# Altium integrated library Capacitor - Aluminium TH.IntLib: 4591 symbols (part 66 of 68)
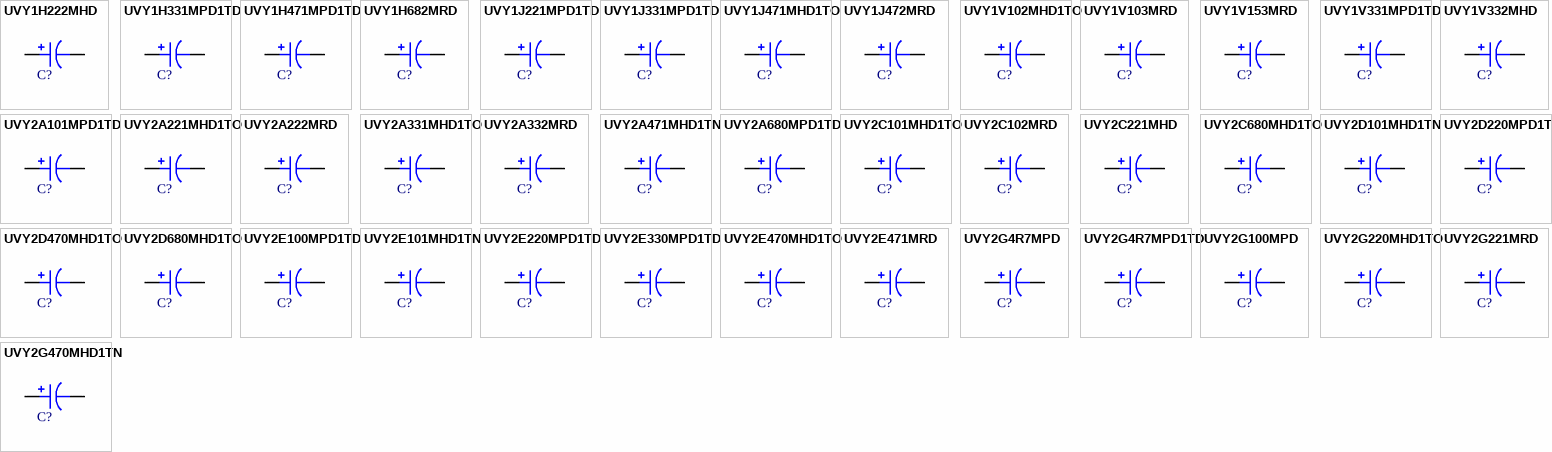
[diagram p179: symbols UVY1H222MHD to UVY2G470MHD1TN]

## UVY2A332MRD
designator C?, comment 3300uF  (value not drawn)
CAP ALUM 3300UF 20% 100V RADIAL; Part Number: UVY2A332MRD; Manufacturer: Nichicon; TemperatureRange: -55C ~ 105C; Type: Polar; Ripple Current: 2.07A; Value: 3300uF; PartId: 27523; Supplier 1: Digi-Key; Supplier Part Number 1: 493-12486-ND; ComponentLink1Description: Datasheet; ComponentLink1URL: http://nichicon-us.com/english/products/pdfs/e-uvy.pdf; ComponentLink2Description: Digi-Key Listing; ComponentLink2URL: https://www.digikey.com/product-detail/en/nichicon/UVY2A332MRD/493-12486-ND/2539710; Tolerance: 20%; Voltage: 100V; Price: 5.02; Device Package: Radial, Can, 25mm
footprint CAP AL TH D25 L12.5 H52
pins: 1, 2

## UVY2A471MHD1TN
designator C?, comment 470uF  (value not drawn)
CAP ALUM 470UF 20% 100V RADIAL; Part Number: UVY2A471MHD1TN; Manufacturer: Nichicon; TemperatureRange: -55C ~ 105C; Type: Polar; Ripple Current: 715mA; Value: 470uF; PartId: 26773; Supplier 1: Digi-Key; Supplier Part Number 1: 493-12956-3-ND; ComponentLink1Description: Datasheet; ComponentLink1URL: http://nichicon-us.com/english/products/pdfs/e-uvy.pdf; ComponentLink2Description: Digi-Key Listing; ComponentLink2URL: https://www.digikey.com/product-detail/en/nichicon/UVY2A471MHD1TN/493-12956-3-ND/4329155; Tolerance: 20%; Voltage: 100V; Price: 0.6202; Device Package: Radial, Can, 16mm
footprint CAP AL TH D16 L7.5 H27
pins: 1, 2

## UVY2A680MPD1TD
designator C?, comment 68uF  (value not drawn)
CAP ALUM 68UF 20% 100V RADIAL; Part Number: UVY2A680MPD1TD; Manufacturer: Nichicon; TemperatureRange: -55C ~ 105C; Type: Polar; Ripple Current: 190mA; Value: 68uF; PartId: 24973; Supplier 1: Digi-Key; Supplier Part Number 1: 493-12958-1-ND; ComponentLink1Description: Datasheet; ComponentLink1URL: http://nichicon-us.com/english/products/pdfs/e-uvy.pdf; ComponentLink2Description: Digi-Key Listing; ComponentLink2URL: https://www.digikey.com/product-detail/en/nichicon/UVY2A680MPD1TD/493-12958-1-ND/4328575; Tolerance: 20%; Voltage: 100V; Price: 0.53; Device Package: Radial, Can, 10mm
footprint CAP AL TH D10 L5 H14.5
pins: 1, 2

## UVY2C101MHD1TO
designator C?, comment 100uF  (value not drawn)
CAP ALUM 100UF 20% 160V RADIAL; Part Number: UVY2C101MHD1TO; Manufacturer: Nichicon; TemperatureRange: -40C ~ 105C; Type: Polar; Ripple Current: 310mA; Value: 100uF; PartId: 24008; Supplier 1: Digi-Key; Supplier Part Number 1: 493-12963-1-ND; ComponentLink1Description: Datasheet; ComponentLink1URL: http://nichicon-us.com/english/products/pdfs/e-uvy.pdf; ComponentLink2Description: Digi-Key Listing; ComponentLink2URL: https://www.digikey.com/product-detail/en/nichicon/UVY2C101MHD1TO/493-12963-1-ND/4328580; Tolerance: 20%; Voltage: 160V; Price: 1.06; Device Package: Radial, Can, 12.5mm
footprint CAP AL TH D12.5 L5 H27
pins: 1, 2

## UVY2C102MRD
designator C?, comment 1000uF  (value not drawn)
CAP ALUM 1000UF 20% 160V RADIAL; Part Number: UVY2C102MRD; Manufacturer: Nichicon; TemperatureRange: -40C ~ 105C; Type: Polar; Ripple Current: 1.35A; Value: 1000uF; PartId: 27549; Supplier 1: Digi-Key; Supplier Part Number 1: 493-12487-ND; ComponentLink1Description: Datasheet; ComponentLink1URL: http://nichicon-us.com/english/products/pdfs/e-uvy.pdf; ComponentLink2Description: Digi-Key Listing; ComponentLink2URL: https://www.digikey.com/product-detail/en/nichicon/UVY2C102MRD/493-12487-ND/2539720; Tolerance: 20%; Voltage: 160V; Price: 3.9; Device Package: Radial, Can, 25mm
footprint CAP AL TH D25 L12.5 H52
pins: 1, 2

## UVY2C221MHD
designator C?, comment 220uF  (value not drawn)
CAP ALUM 220UF 20% 160V RADIAL; Part Number: UVY2C221MHD; Manufacturer: Nichicon; TemperatureRange: -40C ~ 105C; Type: Polar; Ripple Current: 410mA; Value: 220uF; PartId: 27063; Supplier 1: Digi-Key; Supplier Part Number 1: 493-7354-ND; ComponentLink1Description: Datasheet; ComponentLink1URL: http://nichicon-us.com/english/products/pdfs/e-uvy.pdf; ComponentLink2Description: Digi-Key Listing; ComponentLink2URL: https://www.digikey.com/product-detail/en/nichicon/UVY2C221MHD/493-7354-ND/2539722; Tolerance: 20%; Voltage: 160V; Price: 1.62; Device Package: Radial, Can, 16mm
footprint CAP AL TH D16 L7.5 H33.5
pins: 1, 2

## UVY2C680MHD1TO
designator C?, comment 68uF  (value not drawn)
CAP ALUM 68UF 20% 160V RADIAL; Part Number: UVY2C680MHD1TO; Manufacturer: Nichicon; TemperatureRange: -40C ~ 105C; Type: Polar; Ripple Current: 250mA; Value: 68uF; PartId: 23307; Supplier 1: Digi-Key; Supplier Part Number 1: 493-12967-1-ND; ComponentLink1Description: Datasheet; ComponentLink1URL: http://nichicon-us.com/english/products/pdfs/e-uvy.pdf; ComponentLink2Description: Digi-Key Listing; ComponentLink2URL: https://www.digikey.com/product-detail/en/nichicon/UVY2C680MHD1TO/493-12967-1-ND/4328584; Tolerance: 20%; Voltage: 160V; Price: 0.81; Device Package: Radial, Can, 12.5mm
footprint CAP AL TH D12.5 L5 H22
pins: 1, 2

## UVY2D101MHD1TN
designator C?, comment 100uF  (value not drawn)
CAP ALUM 100UF 20% 200V RADIAL; Part Number: UVY2D101MHD1TN; Manufacturer: Nichicon; TemperatureRange: -40C ~ 105C; Type: Polar; Ripple Current: 320mA; Value: 100uF; PartId: 26787; Supplier 1: Digi-Key; Supplier Part Number 1: 493-7465-2-ND; ComponentLink1Description: Datasheet; ComponentLink1URL: http://nichicon-us.com/english/products/pdfs/e-uvy.pdf; ComponentLink2Description: Digi-Key Listing; ComponentLink2URL: https://www.digikey.com/product-detail/en/nichicon/UVY2D101MHD1TN/493-7465-2-ND/3768872; Tolerance: 20%; Voltage: 200V; Price: 0.6682; Device Package: Radial, Can, 16mm
footprint CAP AL TH D16 L7.5 H27
pins: 1, 2

## UVY2D220MPD1TD
designator C?, comment 22uF  (value not drawn)
CAP ALUM 22UF 20% 200V RADIAL; Part Number: UVY2D220MPD1TD; Manufacturer: Nichicon; TemperatureRange: -40C ~ 105C; Type: Polar; Ripple Current: 105mA; Value: 22uF; PartId: 25063; Supplier 1: Digi-Key; Supplier Part Number 1: 493-12971-3-ND; ComponentLink1Description: Datasheet; ComponentLink1URL: http://nichicon-us.com/english/products/pdfs/e-uvy.pdf; ComponentLink2Description: Digi-Key Listing; ComponentLink2URL: https://www.digikey.com/product-detail/en/nichicon/UVY2D220MPD1TD/493-12971-3-ND/4329170; Tolerance: 20%; Voltage: 200V; Price: 0.2228; Device Package: Radial, Can, 10mm
footprint CAP AL TH D10 L5 H17.5
pins: 1, 2

## UVY2D470MHD1TO
designator C?, comment 47uF  (value not drawn)
CAP ALUM 47UF 20% 200V RADIAL; Part Number: UVY2D470MHD1TO; Manufacturer: Nichicon; TemperatureRange: -40C ~ 105C; Type: Polar; Ripple Current: 195mA; Value: 47uF; PartId: 23272; Supplier 1: Digi-Key; Supplier Part Number 1: 493-12975-1-ND; ComponentLink1Description: Datasheet; ComponentLink1URL: http://nichicon-us.com/english/products/pdfs/e-uvy.pdf; ComponentLink2Description: Digi-Key Listing; ComponentLink2URL: https://www.digikey.com/product-detail/en/nichicon/UVY2D470MHD1TO/493-12975-1-ND/4328592; Tolerance: 20%; Voltage: 200V; Price: 0.75; Device Package: Radial, Can, 12.5mm
footprint CAP AL TH D12.5 L5 H22
pins: 1, 2

## UVY2D680MHD1TO
designator C?, comment 68uF  (value not drawn)
CAP ALUM 68UF 20% 200V RADIAL; Part Number: UVY2D680MHD1TO; Manufacturer: Nichicon; TemperatureRange: -40C ~ 105C; Type: Polar; Ripple Current: 250mA; Value: 68uF; PartId: 23970; Supplier 1: Digi-Key; Supplier Part Number 1: 493-12977-1-ND; ComponentLink1Description: Datasheet; ComponentLink1URL: http://nichicon-us.com/english/products/pdfs/e-uvy.pdf; ComponentLink2Description: Digi-Key Listing; ComponentLink2URL: https://www.digikey.com/product-detail/en/nichicon/UVY2D680MHD1TO/493-12977-1-ND/4328594; Tolerance: 20%; Voltage: 200V; Price: 1; Device Package: Radial, Can, 12.5mm
footprint CAP AL TH D12.5 L5 H27
pins: 1, 2

## UVY2E100MPD1TD
designator C?, comment 10uF  (value not drawn)
CAP ALUM 10UF 20% 250V RADIAL; Part Number: UVY2E100MPD1TD; Manufacturer: Nichicon; TemperatureRange: -40C ~ 105C; Type: Polar; Ripple Current: 71mA; Value: 10uF; PartId: 24602; Supplier 1: Digi-Key; Supplier Part Number 1: 493-12981-3-ND; ComponentLink1Description: Datasheet; ComponentLink1URL: http://nichicon-us.com/english/products/pdfs/e-uvy.pdf; ComponentLink2Description: Digi-Key Listing; ComponentLink2URL: https://www.digikey.com/product-detail/en/nichicon/UVY2E100MPD1TD/493-12981-3-ND/4329180; Tolerance: 20%; Voltage: 250V; Price: 0.1782; Device Package: Radial, Can, 10mm
footprint CAP AL TH D10 L5 H14.5
pins: 1, 2

## UVY2E101MHD1TN
designator C?, comment 100uF  (value not drawn)
CAP ALUM 100UF 20% 250V RADIAL; Part Number: UVY2E101MHD1TN; Manufacturer: Nichicon; TemperatureRange: -40C ~ 105C; Type: Polar; Ripple Current: 310mA; Value: 100uF; PartId: 26804; Supplier 1: Digi-Key; Supplier Part Number 1: 493-12982-3-ND; ComponentLink1Description: Datasheet; ComponentLink1URL: http://nichicon-us.com/english/products/pdfs/e-uvy.pdf; ComponentLink2Description: Digi-Key Listing; ComponentLink2URL: https://www.digikey.com/product-detail/en/nichicon/UVY2E101MHD1TN/493-12982-3-ND/4329181; Tolerance: 20%; Voltage: 250V; Price: 0.8096; Device Package: Radial, Can, 16mm
footprint CAP AL TH D16 L7.5 H27
pins: 1, 2

## UVY2E220MPD1TD
designator C?, comment 22uF  (value not drawn)
CAP ALUM 22UF 20% 250V RADIAL; Part Number: UVY2E220MPD1TD; Manufacturer: Nichicon; TemperatureRange: -40C ~ 105C; Type: Polar; Ripple Current: 105mA; Value: 22uF; PartId: 25761; Supplier 1: Digi-Key; Supplier Part Number 1: 493-12983-3-ND; ComponentLink1Description: Datasheet; ComponentLink1URL: http://nichicon-us.com/english/products/pdfs/e-uvy.pdf; ComponentLink2Description: Digi-Key Listing; ComponentLink2URL: https://www.digikey.com/product-detail/en/nichicon/UVY2E220MPD1TD/493-12983-3-ND/4329182; Tolerance: 20%; Voltage: 250V; Price: 0.2136; Device Package: Radial, Can, 10mm
footprint CAP AL TH D10 L5 H22
pins: 1, 2

## UVY2E330MPD1TD
designator C?, comment 33uF  (value not drawn)
CAP ALUM 33UF 20% 250V RADIAL; Part Number: UVY2E330MPD1TD; Manufacturer: Nichicon; TemperatureRange: -40C ~ 105C; Type: Polar; Ripple Current: 140mA; Value: 33uF; PartId: 25791; Supplier 1: Digi-Key; Supplier Part Number 1: 493-12984-3-ND; ComponentLink1Description: Datasheet; ComponentLink1URL: http://nichicon-us.com/english/products/pdfs/e-uvy.pdf; ComponentLink2Description: Digi-Key Listing; ComponentLink2URL: https://www.digikey.com/product-detail/en/nichicon/UVY2E330MPD1TD/493-12984-3-ND/4329183; Tolerance: 20%; Voltage: 250V; Price: 0.2646; Device Package: Radial, Can, 10mm
footprint CAP AL TH D10 L5 H22
pins: 1, 2

## UVY2E470MHD1TO
designator C?, comment 47uF  (value not drawn)
CAP ALUM 47UF 20% 250V RADIAL; Part Number: UVY2E470MHD1TO; Manufacturer: Nichicon; TemperatureRange: -40C ~ 105C; Type: Polar; Ripple Current: 190mA; Value: 47uF; PartId: 23407; Supplier 1: Digi-Key; Supplier Part Number 1: 493-12986-1-ND; ComponentLink1Description: Datasheet; ComponentLink1URL: http://nichicon-us.com/english/products/pdfs/e-uvy.pdf; ComponentLink2Description: Digi-Key Listing; ComponentLink2URL: https://www.digikey.com/product-detail/en/nichicon/UVY2E470MHD1TO/493-12986-1-ND/4328603; Tolerance: 20%; Voltage: 250V; Price: 0.98; Device Package: Radial, Can, 12.5mm
footprint CAP AL TH D12.5 L5 H22
pins: 1, 2

## UVY2E471MRD
designator C?, comment 470uF  (value not drawn)
CAP ALUM 470UF 20% 250V RADIAL; Part Number: UVY2E471MRD; Manufacturer: Nichicon; TemperatureRange: -40C ~ 105C; Type: Polar; Ripple Current: 1A; Value: 470uF; PartId: 27645; Supplier 1: Digi-Key; Supplier Part Number 1: 493-12494-ND; ComponentLink1Description: Datasheet; ComponentLink1URL: http://nichicon-us.com/english/products/pdfs/e-uvy.pdf; ComponentLink2Description: Digi-Key Listing; ComponentLink2URL: https://www.digikey.com/product-detail/en/nichicon/UVY2E471MRD/493-12494-ND/2539753; Tolerance: 20%; Voltage: 250V; Price: 4.16; Device Package: Radial, Can, 22mm
footprint CAP AL TH D22 L10 H53
pins: 1, 2

## UVY2G4R7MPD
designator C?, comment 4.7uF  (value not drawn)
CAP ALUM 4.7UF 20% 400V RADIAL; Part Number: UVY2G4R7MPD; Manufacturer: Nichicon; TemperatureRange: -40C ~ 105C; Type: Polar; Ripple Current: 42mA; Value: 4.7uF; PartId: 24838; Supplier 1: Digi-Key; Supplier Part Number 1: 493-14517-ND; ComponentLink1Description: Datasheet; ComponentLink1URL: http://nichicon-us.com/english/products/pdfs/e-uvy.pdf; ComponentLink2Description: Digi-Key Listing; ComponentLink2URL: https://www.digikey.com/product-detail/en/nichicon/UVY2G4R7MPD/493-14517-ND/2539765; Tolerance: 20%; Voltage: 400V; Price: 0.46; Device Package: Radial, Can, 10mm
footprint CAP AL TH D10 L5 H14.5
pins: 1, 2

## UVY2G4R7MPD1TD
designator C?, comment 4.7uF  (value not drawn)
CAP ALUM 4.7UF 20% 400V RADIAL; Part Number: UVY2G4R7MPD1TD; Manufacturer: Nichicon; TemperatureRange: -40C ~ 105C; Type: Polar; Ripple Current: 42mA; Value: 4.7uF; PartId: 24574; Supplier 1: Digi-Key; Supplier Part Number 1: 493-12991-3-ND; ComponentLink1Description: Datasheet; ComponentLink1URL: http://nichicon-us.com/english/products/pdfs/e-uvy.pdf; ComponentLink2Description: Digi-Key Listing; ComponentLink2URL: https://www.digikey.com/product-detail/en/nichicon/UVY2G4R7MPD1TD/493-12991-3-ND/4329190; Tolerance: 20%; Voltage: 400V; Price: 0.1578; Device Package: Radial, Can, 10mm
footprint CAP AL TH D10 L5 H14.5
pins: 1, 2

## UVY2G100MPD
designator C?, comment 10uF  (value not drawn)
CAP ALUM 10UF 20% 400V RADIAL; Part Number: UVY2G100MPD; Manufacturer: Nichicon; TemperatureRange: -40C ~ 105C; Type: Polar; Ripple Current: 64mA; Value: 10uF; PartId: 25276; Supplier 1: Digi-Key; Supplier Part Number 1: 493-13411-ND; ComponentLink1Description: Datasheet; ComponentLink1URL: http://nichicon-us.com/english/products/pdfs/e-uvy.pdf; ComponentLink2Description: Digi-Key Listing; ComponentLink2URL: https://www.digikey.com/product-detail/en/nichicon/UVY2G100MPD/493-13411-ND/2539757; Tolerance: 20%; Voltage: 400V; Price: 0.62; Device Package: Radial, Can, 10mm
footprint CAP AL TH D10 L5 H17.5
pins: 1, 2

## UVY2G220MHD1TO
designator C?, comment 22uF  (value not drawn)
CAP ALUM 22UF 20% 400V RADIAL; Part Number: UVY2G220MHD1TO; Manufacturer: Nichicon; TemperatureRange: -40C ~ 105C; Type: Polar; Ripple Current: 140mA; Value: 22uF; PartId: 23861; Supplier 1: Digi-Key; Supplier Part Number 1: 493-7468-2-ND; ComponentLink1Description: Datasheet; ComponentLink1URL: http://nichicon-us.com/english/products/pdfs/e-uvy.pdf; ComponentLink2Description: Digi-Key Listing; ComponentLink2URL: https://www.digikey.com/product-detail/en/nichicon/UVY2G220MHD1TO/493-7468-2-ND/3768878; Tolerance: 20%; Voltage: 400V; Price: 0.6764; Device Package: Radial, Can, 12.5mm
footprint CAP AL TH D12.5 L5 H27
pins: 1, 2

## UVY2G221MRD
designator C?, comment 220uF  (value not drawn)
CAP ALUM 220UF 20% 400V RADIAL; Part Number: UVY2G221MRD; Manufacturer: Nichicon; TemperatureRange: -40C ~ 105C; Type: Polar; Ripple Current: 460mA; Value: 220uF; PartId: 27629; Supplier 1: Digi-Key; Supplier Part Number 1: 493-12496-ND; ComponentLink1Description: Datasheet; ComponentLink1URL: http://nichicon-us.com/english/products/pdfs/e-uvy.pdf; ComponentLink2Description: Digi-Key Listing; ComponentLink2URL: https://www.digikey.com/product-detail/en/nichicon/UVY2G221MRD/493-12496-ND/2539760; Tolerance: 20%; Voltage: 400V; Price: 4.57; Device Package: Radial, Can, 22mm
footprint CAP AL TH D22 L10 H53
pins: 1, 2

## UVY2G470MHD1TN
designator C?, comment 47uF  (value not drawn)
CAP ALUM 47UF 20% 400V RADIAL; Part Number: UVY2G470MHD1TN; Manufacturer: Nichicon; TemperatureRange: -40C ~ 105C; Type: Polar; Ripple Current: 200mA; Value: 47uF; PartId: 26811; Supplier 1: Digi-Key; Supplier Part Number 1: 493-12990-3-ND; ComponentLink1Description: Datasheet; ComponentLink1URL: http://nichicon-us.com/english/products/pdfs/e-uvy.pdf; ComponentLink2Description: Digi-Key Listing; ComponentLink2URL: https://www.digikey.com/product-detail/en/nichicon/UVY2G470MHD1TN/493-12990-3-ND/4329189; Tolerance: 20%; Voltage: 400V; Price: 0.8788; Device Package: Radial, Can, 16mm
footprint CAP AL TH D16 L7.5 H27
pins: 1, 2

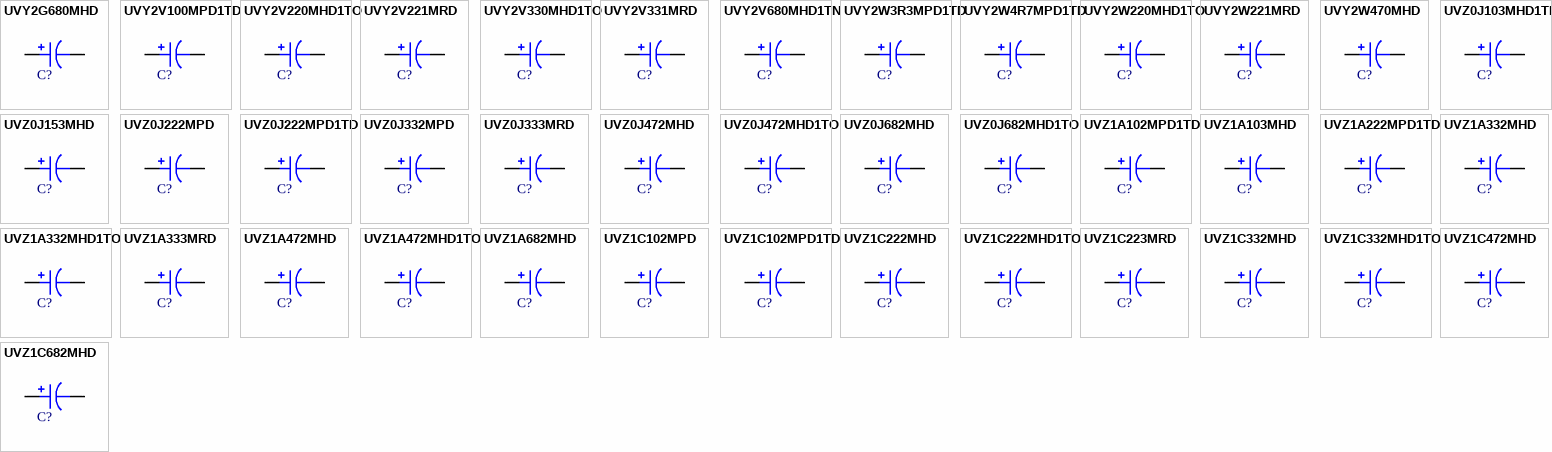
[diagram p111: symbols UVY2G680MHD to UVZ1C682MHD]

## UVY2G680MHD
designator C?, comment 68uF  (value not drawn)
CAP ALUM 68UF 20% 400V RADIAL; Part Number: UVY2G680MHD; Manufacturer: Nichicon; TemperatureRange: -40C ~ 105C; Type: Polar; Ripple Current: 240mA; Value: 68uF; PartId: 27186; Supplier 1: Digi-Key; Supplier Part Number 1: 493-12497-ND; ComponentLink1Description: Datasheet; ComponentLink1URL: http://nichicon-us.com/english/products/pdfs/e-uvy.pdf; ComponentLink2Description: Digi-Key Listing; ComponentLink2URL: https://www.digikey.com/product-detail/en/nichicon/UVY2G680MHD/493-12497-ND/2539766; Tolerance: 20%; Voltage: 400V; Price: 1.97; Device Package: Radial, Can, 16mm
footprint CAP AL TH D16 L7.5 H33.5
pins: 1, 2

## UVY2V100MPD1TD
designator C?, comment 10uF  (value not drawn)
CAP ALUM 10UF 20% 350V RADIAL; Part Number: UVY2V100MPD1TD; Manufacturer: Nichicon; TemperatureRange: -40C ~ 105C; Type: Polar; Ripple Current: 64mA; Value: 10uF; PartId: 24626; Supplier 1: Digi-Key; Supplier Part Number 1: 493-12993-3-ND; ComponentLink1Description: Datasheet; ComponentLink1URL: http://nichicon-us.com/english/products/pdfs/e-uvy.pdf; ComponentLink2Description: Digi-Key Listing; ComponentLink2URL: https://www.digikey.com/product-detail/en/nichicon/UVY2V100MPD1TD/493-12993-3-ND/4329192; Tolerance: 20%; Voltage: 350V; Price: 0.2148; Device Package: Radial, Can, 10mm
footprint CAP AL TH D10 L5 H14.5
pins: 1, 2

## UVY2V220MHD1TO
designator C?, comment 22uF  (value not drawn)
CAP ALUM 22UF 20% 350V RADIAL; Part Number: UVY2V220MHD1TO; Manufacturer: Nichicon; TemperatureRange: -40C ~ 105C; Type: Polar; Ripple Current: 105mA; Value: 22uF; PartId: 23283; Supplier 1: Digi-Key; Supplier Part Number 1: 493-12994-1-ND; ComponentLink1Description: Datasheet; ComponentLink1URL: http://nichicon-us.com/english/products/pdfs/e-uvy.pdf; ComponentLink2Description: Digi-Key Listing; ComponentLink2URL: https://www.digikey.com/product-detail/en/nichicon/UVY2V220MHD1TO/493-12994-1-ND/4328611; Tolerance: 20%; Voltage: 350V; Price: 0.78; Device Package: Radial, Can, 12.5mm
footprint CAP AL TH D12.5 L5 H22
pins: 1, 2

## UVY2V221MRD
designator C?, comment 220uF  (value not drawn)
CAP ALUM 220UF 20% 350V RADIAL; Part Number: UVY2V221MRD; Manufacturer: Nichicon; TemperatureRange: -40C ~ 105C; Type: Polar; Ripple Current: 540mA; Value: 220uF; PartId: 27638; Supplier 1: Digi-Key; Supplier Part Number 1: 493-12499-ND; ComponentLink1Description: Datasheet; ComponentLink1URL: http://nichicon-us.com/english/products/pdfs/e-uvy.pdf; ComponentLink2Description: Digi-Key Listing; ComponentLink2URL: https://www.digikey.com/product-detail/en/nichicon/UVY2V221MRD/493-12499-ND/2539771; Tolerance: 20%; Voltage: 350V; Price: 3.86; Device Package: Radial, Can, 22mm
footprint CAP AL TH D22 L10 H53
pins: 1, 2

## UVY2V330MHD1TO
designator C?, comment 33uF  (value not drawn)
CAP ALUM 33UF 20% 350V RADIAL; Part Number: UVY2V330MHD1TO; Manufacturer: Nichicon; TemperatureRange: -40C ~ 105C; Type: Polar; Ripple Current: 170mA; Value: 33uF; PartId: 24009; Supplier 1: Digi-Key; Supplier Part Number 1: 493-12996-1-ND; ComponentLink1Description: Datasheet; ComponentLink1URL: http://nichicon-us.com/english/products/pdfs/e-uvy.pdf; ComponentLink2Description: Digi-Key Listing; ComponentLink2URL: https://www.digikey.com/product-detail/en/nichicon/UVY2V330MHD1TO/493-12996-1-ND/4328613; Tolerance: 20%; Voltage: 350V; Price: 1.06; Device Package: Radial, Can, 12.5mm
footprint CAP AL TH D12.5 L5 H27
pins: 1, 2

## UVY2V331MRD
designator C?, comment 330uF  (value not drawn)
CAP ALUM 330UF 20% 350V RADIAL; Part Number: UVY2V331MRD; Manufacturer: Nichicon; TemperatureRange: -40C ~ 105C; Type: Polar; Ripple Current: 710mA; Value: 330uF; PartId: 27556; Supplier 1: Digi-Key; Supplier Part Number 1: 493-12500-ND; ComponentLink1Description: Datasheet; ComponentLink1URL: http://nichicon-us.com/english/products/pdfs/e-uvy.pdf; ComponentLink2Description: Digi-Key Listing; ComponentLink2URL: https://www.digikey.com/product-detail/en/nichicon/UVY2V331MRD/493-12500-ND/2539774; Tolerance: 20%; Voltage: 350V; Price: 5.82; Device Package: Radial, Can, 25mm
footprint CAP AL TH D25 L12.5 H52
pins: 1, 2

## UVY2V680MHD1TN
designator C?, comment 68uF  (value not drawn)
CAP ALUM 68UF 20% 350V RADIAL; Part Number: UVY2V680MHD1TN; Manufacturer: Nichicon; TemperatureRange: -40C ~ 105C; Type: Polar; Ripple Current: 285mA; Value: 68uF; PartId: 26810; Supplier 1: Digi-Key; Supplier Part Number 1: 493-12999-3-ND; ComponentLink1Description: Datasheet; ComponentLink1URL: http://nichicon-us.com/english/products/pdfs/e-uvy.pdf; ComponentLink2Description: Digi-Key Listing; ComponentLink2URL: https://www.digikey.com/product-detail/en/nichicon/UVY2V680MHD1TN/493-12999-3-ND/4329198; Tolerance: 20%; Voltage: 350V; Price: 0.8692; Device Package: Radial, Can, 16mm
footprint CAP AL TH D16 L7.5 H27
pins: 1, 2

## UVY2W3R3MPD1TD
designator C?, comment 3.3uF  (value not drawn)
CAP ALUM 3.3UF 20% 450V RADIAL; Part Number: UVY2W3R3MPD1TD; Manufacturer: Nichicon; TemperatureRange: -25C ~ 105C; Type: Polar; Ripple Current: 28mA; Value: 3.3uF; PartId: 24610; Supplier 1: Digi-Key; Supplier Part Number 1: 493-13003-3-ND; ComponentLink1Description: Datasheet; ComponentLink1URL: http://nichicon-us.com/english/products/pdfs/e-uvy.pdf; ComponentLink2Description: Digi-Key Listing; ComponentLink2URL: https://www.digikey.com/product-detail/en/nichicon/UVY2W3R3MPD1TD/493-13003-3-ND/4329202; Tolerance: 20%; Voltage: 450V; Price: 0.193; Device Package: Radial, Can, 10mm
footprint CAP AL TH D10 L5 H14.5
pins: 1, 2

## UVY2W4R7MPD1TD
designator C?, comment 4.7uF  (value not drawn)
CAP ALUM 4.7UF 20% 450V RADIAL; Part Number: UVY2W4R7MPD1TD; Manufacturer: Nichicon; TemperatureRange: -25C ~ 105C; Type: Polar; Ripple Current: 32mA; Value: 4.7uF; PartId: 24636; Supplier 1: Digi-Key; Supplier Part Number 1: 493-13004-3-ND; ComponentLink1Description: Datasheet; ComponentLink1URL: http://nichicon-us.com/english/products/pdfs/e-uvy.pdf; ComponentLink2Description: Digi-Key Listing; ComponentLink2URL: https://www.digikey.com/product-detail/en/nichicon/UVY2W4R7MPD1TD/493-13004-3-ND/4329203; Tolerance: 20%; Voltage: 450V; Price: 0.2374; Device Package: Radial, Can, 10mm
footprint CAP AL TH D10 L5 H14.5
pins: 1, 2

## UVY2W220MHD1TO
designator C?, comment 22uF  (value not drawn)
CAP ALUM 22UF 20% 450V RADIAL; Part Number: UVY2W220MHD1TO; Manufacturer: Nichicon; TemperatureRange: -25C ~ 105C; Type: Polar; Ripple Current: 100mA; Value: 22uF; PartId: 23835; Supplier 1: Digi-Key; Supplier Part Number 1: 493-13001-3-ND; ComponentLink1Description: Datasheet; ComponentLink1URL: http://nichicon-us.com/english/products/pdfs/e-uvy.pdf; ComponentLink2Description: Digi-Key Listing; ComponentLink2URL: https://www.digikey.com/product-detail/en/nichicon/UVY2W220MHD1TO/493-13001-3-ND/4329200; Tolerance: 20%; Voltage: 450V; Price: 0.4843; Device Package: Radial, Can, 12.5mm
footprint CAP AL TH D12.5 L5 H27
pins: 1, 2

## UVY2W221MRD
designator C?, comment 220uF  (value not drawn)
CAP ALUM 220UF 20% 450V RADIAL; Part Number: UVY2W221MRD; Manufacturer: Nichicon; TemperatureRange: -25C ~ 105C; Type: Polar; Ripple Current: 250mA; Value: 220uF; PartId: 27557; Supplier 1: Digi-Key; Supplier Part Number 1: 493-12502-ND; ComponentLink1Description: Datasheet; ComponentLink1URL: http://nichicon-us.com/english/products/pdfs/e-uvy.pdf; ComponentLink2Description: Digi-Key Listing; ComponentLink2URL: https://www.digikey.com/product-detail/en/nichicon/UVY2W221MRD/493-12502-ND/2539782; Tolerance: 20%; Voltage: 450V; Price: 7.19; Device Package: Radial, Can, 25mm
footprint CAP AL TH D25 L12.5 H52
pins: 1, 2

## UVY2W470MHD
designator C?, comment 47uF  (value not drawn)
CAP ALUM 47UF 20% 450V RADIAL; Part Number: UVY2W470MHD; Manufacturer: Nichicon; TemperatureRange: -25C ~ 105C; Type: Polar; Ripple Current: 155mA; Value: 47uF; PartId: 27176; Supplier 1: Digi-Key; Supplier Part Number 1: 493-12503-ND; ComponentLink1Description: Datasheet; ComponentLink1URL: http://nichicon-us.com/english/products/pdfs/e-uvy.pdf; ComponentLink2Description: Digi-Key Listing; ComponentLink2URL: https://www.digikey.com/product-detail/en/nichicon/UVY2W470MHD/493-12503-ND/2539786; Tolerance: 20%; Voltage: 450V; Price: 1.91; Device Package: Radial, Can, 16mm
footprint CAP AL TH D16 L7.5 H33.5
pins: 1, 2

## UVZ0J103MHD1TN
designator C?, comment 10000uF  (value not drawn)
CAP ALUM 10000UF 20% 6.3V RADIAL; Part Number: UVZ0J103MHD1TN; Manufacturer: Nichicon; TemperatureRange: -55C ~ 105C; Type: Polar; Ripple Current: 1.65A; Value: 10000uF; PartId: 26761; Supplier 1: Digi-Key; Supplier Part Number 1: 493-7473-3-ND; ComponentLink1Description: Datasheet; ComponentLink1URL: http://nichicon-us.com/english/products/pdfs/e-uvz.pdf; ComponentLink2Description: Digi-Key Listing; ComponentLink2URL: https://www.digikey.com/product-detail/en/nichicon/UVZ0J103MHD1TN/493-7473-3-ND/3768888; Tolerance: 20%; Voltage: 6.3V; Price: 0.5804; Device Package: Radial, Can, 16mm
footprint CAP AL TH D16 L7.5 H27
pins: 1, 2

## UVZ0J153MHD
designator C?, comment 15000uF  (value not drawn)
CAP ALUM 15000UF 20% 6.3V RADIAL; Part Number: UVZ0J153MHD; Manufacturer: Nichicon; TemperatureRange: -55C ~ 105C; Type: Polar; Ripple Current: 2.01A; Value: 15000uF; PartId: 27366; Supplier 1: Digi-Key; Supplier Part Number 1: 493-1260-ND; ComponentLink1Description: Datasheet; ComponentLink1URL: http://nichicon-us.com/english/products/pdfs/e-uvz.pdf; ComponentLink2Description: Digi-Key Listing; ComponentLink2URL: https://www.digikey.com/product-detail/en/nichicon/UVZ0J153MHD/493-1260-ND/589001; Tolerance: 20%; Voltage: 6.3V; Price: 1.79; Device Package: Radial, Can, 16mm
footprint CAP AL TH D16 L7.5 H37
pins: 1, 2

## UVZ0J222MPD
designator C?, comment 2200uF  (value not drawn)
CAP ALUM 2200UF 20% 6.3V RADIAL; Part Number: UVZ0J222MPD; Manufacturer: Nichicon; TemperatureRange: -55C ~ 105C; Type: Polar; Ripple Current: 710mA; Value: 2200uF; PartId: 25518; Supplier 1: Digi-Key; Supplier Part Number 1: 493-1255-ND; ComponentLink1Description: Datasheet; ComponentLink1URL: http://nichicon-us.com/english/products/pdfs/e-uvz.pdf; ComponentLink2Description: Digi-Key Listing; ComponentLink2URL: https://www.digikey.com/product-detail/en/nichicon/UVZ0J222MPD/493-1255-ND/588996; Tolerance: 20%; Voltage: 6.3V; Price: 0.58; Device Package: Radial, Can, 10mm
footprint CAP AL TH D10 L5 H22
pins: 1, 2

## UVZ0J222MPD1TD
designator C?, comment 2200uF  (value not drawn)
CAP ALUM 2200UF 20% 6.3V RADIAL; Part Number: UVZ0J222MPD1TD; Manufacturer: Nichicon; TemperatureRange: -55C ~ 105C; Type: Polar; Ripple Current: 710mA; Value: 2200uF; PartId: 25747; Supplier 1: Digi-Key; Supplier Part Number 1: 493-13418-3-ND; ComponentLink1Description: Datasheet; ComponentLink1URL: http://nichicon-us.com/english/products/pdfs/e-uvz.pdf; ComponentLink2Description: Digi-Key Listing; ComponentLink2URL: https://www.digikey.com/product-detail/en/nichicon/UVZ0J222MPD1TD/493-13418-3-ND/4341974; Tolerance: 20%; Voltage: 6.3V; Price: 0.1994; Device Package: Radial, Can, 10mm
footprint CAP AL TH D10 L5 H22
pins: 1, 2

## UVZ0J332MPD
designator C?, comment 3300uF  (value not drawn)
CAP ALUM 3300UF 20% 6.3V RADIAL; Part Number: UVZ0J332MPD; Manufacturer: Nichicon; TemperatureRange: -55C ~ 105C; Type: Polar; Ripple Current: 840mA; Value: 3300uF; PartId: 25524; Supplier 1: Digi-Key; Supplier Part Number 1: 493-1256-ND; ComponentLink1Description: Datasheet; ComponentLink1URL: http://nichicon-us.com/english/products/pdfs/e-uvz.pdf; ComponentLink2Description: Digi-Key Listing; ComponentLink2URL: https://www.digikey.com/product-detail/en/nichicon/UVZ0J332MPD/493-1256-ND/588997; Tolerance: 20%; Voltage: 6.3V; Price: 0.6; Device Package: Radial, Can, 10mm
footprint CAP AL TH D10 L5 H22
pins: 1, 2

## UVZ0J333MRD
designator C?, comment 33000uF  (value not drawn)
CAP ALUM 33000UF 20% 6.3V RADIAL; Part Number: UVZ0J333MRD; Manufacturer: Nichicon; TemperatureRange: -55C ~ 105C; Type: Polar; Ripple Current: 2.8A; Value: 33000uF; PartId: 27633; Supplier 1: Digi-Key; Supplier Part Number 1: 493-1262-ND; ComponentLink1Description: Datasheet; ComponentLink1URL: http://nichicon-us.com/english/products/pdfs/e-uvz.pdf; ComponentLink2Description: Digi-Key Listing; ComponentLink2URL: https://www.digikey.com/product-detail/en/nichicon/UVZ0J333MRD/493-1262-ND/589003; Tolerance: 20%; Voltage: 6.3V; Price: 3.4; Device Package: Radial, Can, 22mm
footprint CAP AL TH D22 L10 H53
pins: 1, 2

## UVZ0J472MHD
designator C?, comment 4700uF  (value not drawn)
CAP ALUM 4700UF 20% 6.3V RADIAL; Part Number: UVZ0J472MHD; Manufacturer: Nichicon; TemperatureRange: -55C ~ 105C; Type: Polar; Ripple Current: 1.09A; Value: 4700uF; PartId: 22862; Supplier 1: Digi-Key; Supplier Part Number 1: 493-1257-ND; ComponentLink1Description: Datasheet; ComponentLink1URL: http://nichicon-us.com/english/products/pdfs/e-uvz.pdf; ComponentLink2Description: Digi-Key Listing; ComponentLink2URL: https://www.digikey.com/product-detail/en/nichicon/UVZ0J472MHD/493-1257-ND/588998; Tolerance: 20%; Voltage: 6.3V; Price: 0; Device Package: Radial, Can, 12.5mm
footprint CAP AL TH D12.5 L5 H20
pins: 1, 2

## UVZ0J472MHD1TO
designator C?, comment 4700uF  (value not drawn)
CAP ALUM 4700UF 20% 6.3V RADIAL; Part Number: UVZ0J472MHD1TO; Manufacturer: Nichicon; TemperatureRange: -55C ~ 105C; Type: Polar; Ripple Current: 1.09A; Value: 4700uF; PartId: 23146; Supplier 1: Digi-Key; Supplier Part Number 1: 493-13424-3-ND; ComponentLink1Description: Datasheet; ComponentLink1URL: http://nichicon-us.com/english/products/pdfs/e-uvz.pdf; ComponentLink2Description: Digi-Key Listing; ComponentLink2URL: https://www.digikey.com/product-detail/en/nichicon/UVZ0J472MHD1TO/493-13424-3-ND/4341980; Tolerance: 20%; Voltage: 6.3V; Price: 0.2821; Device Package: Radial, Can, 12.5mm
footprint CAP AL TH D12.5 L5 H22
pins: 1, 2

## UVZ0J682MHD
designator C?, comment 6800uF  (value not drawn)
CAP ALUM 6800UF 20% 6.3V RADIAL; Part Number: UVZ0J682MHD; Manufacturer: Nichicon; TemperatureRange: -55C ~ 105C; Type: Polar; Ripple Current: 1.35A; Value: 6800uF; PartId: 23597; Supplier 1: Digi-Key; Supplier Part Number 1: 493-1258-ND; ComponentLink1Description: Datasheet; ComponentLink1URL: http://nichicon-us.com/english/products/pdfs/e-uvz.pdf; ComponentLink2Description: Digi-Key Listing; ComponentLink2URL: https://www.digikey.com/product-detail/en/nichicon/UVZ0J682MHD/493-1258-ND/588999; Tolerance: 20%; Voltage: 6.3V; Price: 1.04; Device Package: Radial, Can, 12.5mm
footprint CAP AL TH D12.5 L5 H25
pins: 1, 2

## UVZ0J682MHD1TO
designator C?, comment 6800uF  (value not drawn)
CAP ALUM 6800UF 20% 6.3V RADIAL; Part Number: UVZ0J682MHD1TO; Manufacturer: Nichicon; TemperatureRange: -55C ~ 105C; Type: Polar; Ripple Current: 1.35A; Value: 6800uF; PartId: 24055; Supplier 1: Digi-Key; Supplier Part Number 1: 493-13425-1-ND; ComponentLink1Description: Datasheet; ComponentLink1URL: http://nichicon-us.com/english/products/pdfs/e-uvz.pdf; ComponentLink2Description: Digi-Key Listing; ComponentLink2URL: https://www.digikey.com/product-detail/en/nichicon/UVZ0J682MHD1TO/493-13425-1-ND/4342136; Tolerance: 20%; Voltage: 6.3V; Price: 1.16; Device Package: Radial, Can, 12.5mm
footprint CAP AL TH D12.5 L5 H27
pins: 1, 2

## UVZ1A102MPD1TD
designator C?, comment 1000uF  (value not drawn)
CAP ALUM 1000UF 20% 10V RADIAL; Part Number: UVZ1A102MPD1TD; Manufacturer: Nichicon; TemperatureRange: -55C ~ 105C; Type: Polar; Ripple Current: 460mA; Value: 1000uF; PartId: 24542; Supplier 1: Digi-Key; Supplier Part Number 1: 493-13427-3-ND; ComponentLink1Description: Datasheet; ComponentLink1URL: http://nichicon-us.com/english/products/pdfs/e-uvz.pdf; ComponentLink2Description: Digi-Key Listing; ComponentLink2URL: https://www.digikey.com/product-detail/en/nichicon/UVZ1A102MPD1TD/493-13427-3-ND/4341983; Tolerance: 20%; Voltage: 10V; Price: 0.1473; Device Package: Radial, Can, 10mm
footprint CAP AL TH D10 L5 H14.5
pins: 1, 2

## UVZ1A103MHD
designator C?, comment 10000uF  (value not drawn)
CAP ALUM 10000UF 20% 10V RADIAL; Part Number: UVZ1A103MHD; Manufacturer: Nichicon; TemperatureRange: -55C ~ 105C; Type: Polar; Ripple Current: 1.89A; Value: 10000uF; PartId: 27367; Supplier 1: Digi-Key; Supplier Part Number 1: 493-1275-ND; ComponentLink1Description: Datasheet; ComponentLink1URL: http://nichicon-us.com/english/products/pdfs/e-uvz.pdf; ComponentLink2Description: Digi-Key Listing; ComponentLink2URL: https://www.digikey.com/product-detail/en/nichicon/UVZ1A103MHD/493-1275-ND/589016; Tolerance: 20%; Voltage: 10V; Price: 1.79; Device Package: Radial, Can, 16mm
footprint CAP AL TH D16 L7.5 H37
pins: 1, 2

## UVZ1A222MPD1TD
designator C?, comment 2200uF  (value not drawn)
CAP ALUM 2200UF 20% 10V RADIAL; Part Number: UVZ1A222MPD1TD; Manufacturer: Nichicon; TemperatureRange: -55C ~ 105C; Type: Polar; Ripple Current: 760mA; Value: 2200uF; PartId: 25754; Supplier 1: Digi-Key; Supplier Part Number 1: 493-13430-3-ND; ComponentLink1Description: Datasheet; ComponentLink1URL: http://nichicon-us.com/english/products/pdfs/e-uvz.pdf; ComponentLink2Description: Digi-Key Listing; ComponentLink2URL: https://www.digikey.com/product-detail/en/nichicon/UVZ1A222MPD1TD/493-13430-3-ND/4341986; Tolerance: 20%; Voltage: 10V; Price: 0.2034; Device Package: Radial, Can, 10mm
footprint CAP AL TH D10 L5 H22
pins: 1, 2

## UVZ1A332MHD
designator C?, comment 3300uF  (value not drawn)
CAP ALUM 3300UF 20% 10V RADIAL; Part Number: UVZ1A332MHD; Manufacturer: Nichicon; TemperatureRange: -55C ~ 105C; Type: Polar; Ripple Current: 1A; Value: 3300uF; PartId: 22868; Supplier 1: Digi-Key; Supplier Part Number 1: 493-1272-ND; ComponentLink1Description: Datasheet; ComponentLink1URL: http://nichicon-us.com/english/products/pdfs/e-uvz.pdf; ComponentLink2Description: Digi-Key Listing; ComponentLink2URL: https://www.digikey.com/product-detail/en/nichicon/UVZ1A332MHD/493-1272-ND/589013; Tolerance: 20%; Voltage: 10V; Price: 0; Device Package: Radial, Can, 12.5mm
footprint CAP AL TH D12.5 L5 H20
pins: 1, 2

## UVZ1A332MHD1TO
designator C?, comment 3300uF  (value not drawn)
CAP ALUM 3300UF 20% 10V RADIAL; Part Number: UVZ1A332MHD1TO; Manufacturer: Nichicon; TemperatureRange: -55C ~ 105C; Type: Polar; Ripple Current: 1A; Value: 3300uF; PartId: 23308; Supplier 1: Digi-Key; Supplier Part Number 1: 493-13433-1-ND; ComponentLink1Description: Datasheet; ComponentLink1URL: http://nichicon-us.com/english/products/pdfs/e-uvz.pdf; ComponentLink2Description: Digi-Key Listing; ComponentLink2URL: https://www.digikey.com/product-detail/en/nichicon/UVZ1A332MHD1TO/493-13433-1-ND/4342144; Tolerance: 20%; Voltage: 10V; Price: 0.81; Device Package: Radial, Can, 12.5mm
footprint CAP AL TH D12.5 L5 H22
pins: 1, 2

## UVZ1A333MRD
designator C?, comment 33000uF  (value not drawn)
CAP ALUM 33000UF 20% 10V RADIAL; Part Number: UVZ1A333MRD; Manufacturer: Nichicon; TemperatureRange: -55C ~ 105C; Type: Polar; Ripple Current: 3.25A; Value: 33000uF; PartId: 27661; Supplier 1: Digi-Key; Supplier Part Number 1: 493-1278-ND; ComponentLink1Description: Datasheet; ComponentLink1URL: http://nichicon-us.com/english/products/pdfs/e-uvz.pdf; ComponentLink2Description: Digi-Key Listing; ComponentLink2URL: https://www.digikey.com/product-detail/en/nichicon/UVZ1A333MRD/493-1278-ND/589019; Tolerance: 20%; Voltage: 10V; Price: 4.62; Device Package: Radial, Can, 22mm
footprint CAP AL TH D22 L10 H53
pins: 1, 2

## UVZ1A472MHD
designator C?, comment 4700uF  (value not drawn)
CAP ALUM 4700UF 20% 10V RADIAL; Part Number: UVZ1A472MHD; Manufacturer: Nichicon; TemperatureRange: -55C ~ 105C; Type: Polar; Ripple Current: 1.26A; Value: 4700uF; PartId: 23607; Supplier 1: Digi-Key; Supplier Part Number 1: 493-1273-ND; ComponentLink1Description: Datasheet; ComponentLink1URL: http://nichicon-us.com/english/products/pdfs/e-uvz.pdf; ComponentLink2Description: Digi-Key Listing; ComponentLink2URL: https://www.digikey.com/product-detail/en/nichicon/UVZ1A472MHD/493-1273-ND/589014; Tolerance: 20%; Voltage: 10V; Price: 1.07; Device Package: Radial, Can, 12.5mm
footprint CAP AL TH D12.5 L5 H25
pins: 1, 2

## UVZ1A472MHD1TO
designator C?, comment 4700uF  (value not drawn)
CAP ALUM 4700UF 20% 10V RADIAL; Part Number: UVZ1A472MHD1TO; Manufacturer: Nichicon; TemperatureRange: -55C ~ 105C; Type: Polar; Ripple Current: 1.26A; Value: 4700uF; PartId: 24066; Supplier 1: Digi-Key; Supplier Part Number 1: 493-13436-1-ND; ComponentLink1Description: Datasheet; ComponentLink1URL: http://nichicon-us.com/english/products/pdfs/e-uvz.pdf; ComponentLink2Description: Digi-Key Listing; ComponentLink2URL: https://www.digikey.com/product-detail/en/nichicon/UVZ1A472MHD1TO/493-13436-1-ND/4342147; Tolerance: 20%; Voltage: 10V; Price: 1.19; Device Package: Radial, Can, 12.5mm
footprint CAP AL TH D12.5 L5 H27
pins: 1, 2

## UVZ1A682MHD
designator C?, comment 6800uF  (value not drawn)
CAP ALUM 6800UF 20% 10V RADIAL; Part Number: UVZ1A682MHD; Manufacturer: Nichicon; TemperatureRange: -55C ~ 105C; Type: Polar; Ripple Current: 1.57A; Value: 6800uF; PartId: 26578; Supplier 1: Digi-Key; Supplier Part Number 1: 493-1274-ND; ComponentLink1Description: Datasheet; ComponentLink1URL: http://nichicon-us.com/english/products/pdfs/e-uvz.pdf; ComponentLink2Description: Digi-Key Listing; ComponentLink2URL: https://www.digikey.com/product-detail/en/nichicon/UVZ1A682MHD/493-1274-ND/589015; Tolerance: 20%; Voltage: 10V; Price: 1.21; Device Package: Radial, Can, 16mm
footprint CAP AL TH D16 L7.5 H26.5
pins: 1, 2

## UVZ1C102MPD
designator C?, comment 1000uF  (value not drawn)
CAP ALUM 1000UF 20% 16V RADIAL; Part Number: UVZ1C102MPD; Manufacturer: Nichicon; TemperatureRange: -55C ~ 105C; Type: Polar; Ripple Current: 560mA; Value: 1000uF; PartId: 25200; Supplier 1: Digi-Key; Supplier Part Number 1: 493-1287-ND; ComponentLink1Description: Datasheet; ComponentLink1URL: http://nichicon-us.com/english/products/pdfs/e-uvz.pdf; ComponentLink2Description: Digi-Key Listing; ComponentLink2URL: https://www.digikey.com/product-detail/en/nichicon/UVZ1C102MPD/493-1287-ND/589028; Tolerance: 20%; Voltage: 16V; Price: 0.5; Device Package: Radial, Can, 10mm
footprint CAP AL TH D10 L5 H17.5
pins: 1, 2

## UVZ1C102MPD1TD
designator C?, comment 1000uF  (value not drawn)
CAP ALUM 1000UF 20% 16V RADIAL; Part Number: UVZ1C102MPD1TD; Manufacturer: Nichicon; TemperatureRange: -55C ~ 105C; Type: Polar; Ripple Current: 560mA; Value: 1000uF; PartId: 25026; Supplier 1: Digi-Key; Supplier Part Number 1: 493-13440-3-ND; ComponentLink1Description: Datasheet; ComponentLink1URL: http://nichicon-us.com/english/products/pdfs/e-uvz.pdf; ComponentLink2Description: Digi-Key Listing; ComponentLink2URL: https://www.digikey.com/product-detail/en/nichicon/UVZ1C102MPD1TD/493-13440-3-ND/4341996; Tolerance: 20%; Voltage: 16V; Price: 0.172; Device Package: Radial, Can, 10mm
footprint CAP AL TH D10 L5 H17.5
pins: 1, 2

## UVZ1C222MHD
designator C?, comment 2200uF  (value not drawn)
CAP ALUM 2200UF 20% 16V RADIAL; Part Number: UVZ1C222MHD; Manufacturer: Nichicon; TemperatureRange: -55C ~ 105C; Type: Polar; Ripple Current: 920mA; Value: 2200uF; PartId: 22856; Supplier 1: Digi-Key; Supplier Part Number 1: 493-1288-ND; ComponentLink1Description: Datasheet; ComponentLink1URL: http://nichicon-us.com/english/products/pdfs/e-uvz.pdf; ComponentLink2Description: Digi-Key Listing; ComponentLink2URL: https://www.digikey.com/product-detail/en/nichicon/UVZ1C222MHD/493-1288-ND/589029; Tolerance: 20%; Voltage: 16V; Price: 0; Device Package: Radial, Can, 12.5mm
footprint CAP AL TH D12.5 L5 H20
pins: 1, 2

## UVZ1C222MHD1TO
designator C?, comment 2200uF  (value not drawn)
CAP ALUM 2200UF 20% 16V RADIAL; Part Number: UVZ1C222MHD1TO; Manufacturer: Nichicon; TemperatureRange: -55C ~ 105C; Type: Polar; Ripple Current: 920mA; Value: 2200uF; PartId: 23141; Supplier 1: Digi-Key; Supplier Part Number 1: 493-13443-3-ND; ComponentLink1Description: Datasheet; ComponentLink1URL: http://nichicon-us.com/english/products/pdfs/e-uvz.pdf; ComponentLink2Description: Digi-Key Listing; ComponentLink2URL: https://www.digikey.com/product-detail/en/nichicon/UVZ1C222MHD1TO/493-13443-3-ND/4341999; Tolerance: 20%; Voltage: 16V; Price: 0.273; Device Package: Radial, Can, 12.5mm
footprint CAP AL TH D12.5 L5 H22
pins: 1, 2

## UVZ1C223MRD
designator C?, comment 22000uF  (value not drawn)
CAP ALUM 22000UF 20% 16V RADIAL; Part Number: UVZ1C223MRD; Manufacturer: Nichicon; TemperatureRange: -55C ~ 105C; Type: Polar; Ripple Current: 3A; Value: 22000uF; PartId: 27624; Supplier 1: Digi-Key; Supplier Part Number 1: 493-1294-ND; ComponentLink1Description: Datasheet; ComponentLink1URL: http://nichicon-us.com/english/products/pdfs/e-uvz.pdf; ComponentLink2Description: Digi-Key Listing; ComponentLink2URL: https://www.digikey.com/product-detail/en/nichicon/UVZ1C223MRD/493-1294-ND/589035; Tolerance: 20%; Voltage: 16V; Price: 3.9; Device Package: Radial, Can, 22mm
footprint CAP AL TH D22 L10 H53
pins: 1, 2

## UVZ1C332MHD
designator C?, comment 3300uF  (value not drawn)
CAP ALUM 3300UF 20% 16V RADIAL; Part Number: UVZ1C332MHD; Manufacturer: Nichicon; TemperatureRange: -55C ~ 105C; Type: Polar; Ripple Current: 1.17A; Value: 3300uF; PartId: 23584; Supplier 1: Digi-Key; Supplier Part Number 1: 493-1289-ND; ComponentLink1Description: Datasheet; ComponentLink1URL: http://nichicon-us.com/english/products/pdfs/e-uvz.pdf; ComponentLink2Description: Digi-Key Listing; ComponentLink2URL: https://www.digikey.com/product-detail/en/nichicon/UVZ1C332MHD/493-1289-ND/589030; Tolerance: 20%; Voltage: 16V; Price: 1; Device Package: Radial, Can, 12.5mm
footprint CAP AL TH D12.5 L5 H25
pins: 1, 2

## UVZ1C332MHD1TO
designator C?, comment 3300uF  (value not drawn)
CAP ALUM 3300UF 20% 16V RADIAL; Part Number: UVZ1C332MHD1TO; Manufacturer: Nichicon; TemperatureRange: -55C ~ 105C; Type: Polar; Ripple Current: 1.17A; Value: 3300uF; PartId: 23825; Supplier 1: Digi-Key; Supplier Part Number 1: 493-13446-3-ND; ComponentLink1Description: Datasheet; ComponentLink1URL: http://nichicon-us.com/english/products/pdfs/e-uvz.pdf; ComponentLink2Description: Digi-Key Listing; ComponentLink2URL: https://www.digikey.com/product-detail/en/nichicon/UVZ1C332MHD1TO/493-13446-3-ND/4342002; Tolerance: 20%; Voltage: 16V; Price: 0.4483; Device Package: Radial, Can, 12.5mm
footprint CAP AL TH D12.5 L5 H27
pins: 1, 2

## UVZ1C472MHD
designator C?, comment 4700uF  (value not drawn)
CAP ALUM 4700UF 20% 16V RADIAL; Part Number: UVZ1C472MHD; Manufacturer: Nichicon; TemperatureRange: -55C ~ 105C; Type: Polar; Ripple Current: 1.48A; Value: 4700uF; PartId: 26544; Supplier 1: Digi-Key; Supplier Part Number 1: 493-1290-ND; ComponentLink1Description: Datasheet; ComponentLink1URL: http://nichicon-us.com/english/products/pdfs/e-uvz.pdf; ComponentLink2Description: Digi-Key Listing; ComponentLink2URL: https://www.digikey.com/product-detail/en/nichicon/UVZ1C472MHD/493-1290-ND/589031; Tolerance: 20%; Voltage: 16V; Price: 1.02; Device Package: Radial, Can, 16mm
footprint CAP AL TH D16 L7.5 H26.5
pins: 1, 2

## UVZ1C682MHD
designator C?, comment 6800uF  (value not drawn)
CAP ALUM 6800UF 20% 16V RADIAL; Part Number: UVZ1C682MHD; Manufacturer: Nichicon; TemperatureRange: -55C ~ 105C; Type: Polar; Ripple Current: 1.78A; Value: 6800uF; PartId: 27363; Supplier 1: Digi-Key; Supplier Part Number 1: 493-1291-ND; ComponentLink1Description: Datasheet; ComponentLink1URL: http://nichicon-us.com/english/products/pdfs/e-uvz.pdf; ComponentLink2Description: Digi-Key Listing; ComponentLink2URL: https://www.digikey.com/product-detail/en/nichicon/UVZ1C682MHD/493-1291-ND/589032; Tolerance: 20%; Voltage: 16V; Price: 1.79; Device Package: Radial, Can, 16mm
footprint CAP AL TH D16 L7.5 H37
pins: 1, 2

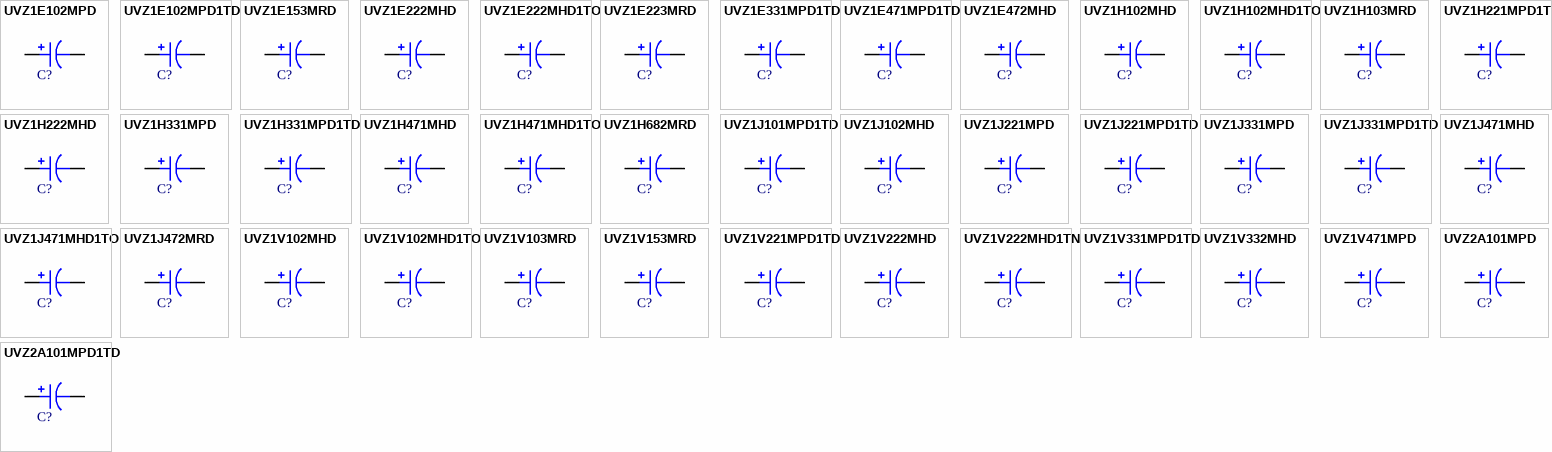
[diagram p112: symbols UVZ1E102MPD to UVZ2A101MPD1TD]

## UVZ1E102MPD
designator C?, comment 1000uF  (value not drawn)
CAP ALUM 1000UF 20% 25V RADIAL; Part Number: UVZ1E102MPD; Manufacturer: Nichicon; TemperatureRange: -55C ~ 105C; Type: Polar; Ripple Current: 680mA; Value: 1000uF; PartId: 25508; Supplier 1: Digi-Key; Supplier Part Number 1: 493-1305-ND; ComponentLink1Description: Datasheet; ComponentLink1URL: http://nichicon-us.com/english/products/pdfs/e-uvz.pdf; ComponentLink2Description: Digi-Key Listing; ComponentLink2URL: https://www.digikey.com/product-detail/en/nichicon/UVZ1E102MPD/493-1305-ND/589046; Tolerance: 20%; Voltage: 25V; Price: 0.51; Device Package: Radial, Can, 10mm
footprint CAP AL TH D10 L5 H22
pins: 1, 2

## UVZ1E102MPD1TD
designator C?, comment 1000uF  (value not drawn)
CAP ALUM 1000UF 20% 25V RADIAL; Part Number: UVZ1E102MPD1TD; Manufacturer: Nichicon; TemperatureRange: -55C ~ 105C; Type: Polar; Ripple Current: 680mA; Value: 1000uF; PartId: 25732; Supplier 1: Digi-Key; Supplier Part Number 1: 493-13452-3-ND; ComponentLink1Description: Datasheet; ComponentLink1URL: http://nichicon-us.com/english/products/pdfs/e-uvz.pdf; ComponentLink2Description: Digi-Key Listing; ComponentLink2URL: https://www.digikey.com/product-detail/en/nichicon/UVZ1E102MPD1TD/493-13452-3-ND/4342008; Tolerance: 20%; Voltage: 25V; Price: 0.1752; Device Package: Radial, Can, 10mm
footprint CAP AL TH D10 L5 H22
pins: 1, 2

## UVZ1E153MRD
designator C?, comment 15000uF  (value not drawn)
CAP ALUM 15000UF 20% 25V RADIAL; Part Number: UVZ1E153MRD; Manufacturer: Nichicon; TemperatureRange: -55C ~ 105C; Type: Polar; Ripple Current: 2.75A; Value: 15000uF; PartId: 27620; Supplier 1: Digi-Key; Supplier Part Number 1: 493-1311-ND; ComponentLink1Description: Datasheet; ComponentLink1URL: http://nichicon-us.com/english/products/pdfs/e-uvz.pdf; ComponentLink2Description: Digi-Key Listing; ComponentLink2URL: https://www.digikey.com/product-detail/en/nichicon/UVZ1E153MRD/493-1311-ND/589052; Tolerance: 20%; Voltage: 25V; Price: 3.71; Device Package: Radial, Can, 22mm
footprint CAP AL TH D22 L10 H53
pins: 1, 2

## UVZ1E222MHD
designator C?, comment 2200uF  (value not drawn)
CAP ALUM 2200UF 20% 25V RADIAL; Part Number: UVZ1E222MHD; Manufacturer: Nichicon; TemperatureRange: -55C ~ 105C; Type: Polar; Ripple Current: 1.09A; Value: 2200uF; PartId: 23592; Supplier 1: Digi-Key; Supplier Part Number 1: 493-1306-ND; ComponentLink1Description: Datasheet; ComponentLink1URL: http://nichicon-us.com/english/products/pdfs/e-uvz.pdf; ComponentLink2Description: Digi-Key Listing; ComponentLink2URL: https://www.digikey.com/product-detail/en/nichicon/UVZ1E222MHD/493-1306-ND/589047; Tolerance: 20%; Voltage: 25V; Price: 1.03; Device Package: Radial, Can, 12.5mm
footprint CAP AL TH D12.5 L5 H25
pins: 1, 2

## UVZ1E222MHD1TO
designator C?, comment 2200uF  (value not drawn)
CAP ALUM 2200UF 20% 25V RADIAL; Part Number: UVZ1E222MHD1TO; Manufacturer: Nichicon; TemperatureRange: -55C ~ 105C; Type: Polar; Ripple Current: 1.09A; Value: 2200uF; PartId: 23820; Supplier 1: Digi-Key; Supplier Part Number 1: 493-13455-3-ND; ComponentLink1Description: Datasheet; ComponentLink1URL: http://nichicon-us.com/english/products/pdfs/e-uvz.pdf; ComponentLink2Description: Digi-Key Listing; ComponentLink2URL: https://www.digikey.com/product-detail/en/nichicon/UVZ1E222MHD1TO/493-13455-3-ND/4342011; Tolerance: 20%; Voltage: 25V; Price: 0.4338; Device Package: Radial, Can, 12.5mm
footprint CAP AL TH D12.5 L5 H27
pins: 1, 2

## UVZ1E223MRD
designator C?, comment 22000uF  (value not drawn)
CAP ALUM 22000UF 20% 25V RADIAL; Part Number: UVZ1E223MRD; Manufacturer: Nichicon; TemperatureRange: -55C ~ 105C; Type: Polar; Ripple Current: 3.25A; Value: 22000uF; PartId: 27504; Supplier 1: Digi-Key; Supplier Part Number 1: 493-1312-ND; ComponentLink1Description: Datasheet; ComponentLink1URL: http://nichicon-us.com/english/products/pdfs/e-uvz.pdf; ComponentLink2Description: Digi-Key Listing; ComponentLink2URL: https://www.digikey.com/product-detail/en/nichicon/UVZ1E223MRD/493-1312-ND/589053; Tolerance: 20%; Voltage: 25V; Price: 4.05; Device Package: Radial, Can, 25mm
footprint CAP AL TH D25 L12.5 H52
pins: 1, 2

## UVZ1E331MPD1TD
designator C?, comment 330uF  (value not drawn)
CAP ALUM 330UF 20% 25V RADIAL; Part Number: UVZ1E331MPD1TD; Manufacturer: Nichicon; TemperatureRange: -55C ~ 105C; Type: Polar; Ripple Current: 315mA; Value: 330uF; PartId: 24492; Supplier 1: Digi-Key; Supplier Part Number 1: 493-7053-2-ND; ComponentLink1Description: Datasheet; ComponentLink1URL: http://nichicon-us.com/english/products/pdfs/e-uvz.pdf; ComponentLink2Description: Digi-Key Listing; ComponentLink2URL: https://www.digikey.com/product-detail/en/nichicon/UVZ1E331MPD1TD/493-7053-2-ND/2741732; Tolerance: 20%; Voltage: 25V; Price: 0.1028; Device Package: Radial, Can, 10mm
footprint CAP AL TH D10 L5 H14.5
pins: 1, 2

## UVZ1E471MPD1TD
designator C?, comment 470uF  (value not drawn)
CAP ALUM 470UF 20% 25V RADIAL; Part Number: UVZ1E471MPD1TD; Manufacturer: Nichicon; TemperatureRange: -55C ~ 105C; Type: Polar; Ripple Current: 380mA; Value: 470uF; PartId: 24536; Supplier 1: Digi-Key; Supplier Part Number 1: 493-13459-3-ND; ComponentLink1Description: Datasheet; ComponentLink1URL: http://nichicon-us.com/english/products/pdfs/e-uvz.pdf; ComponentLink2Description: Digi-Key Listing; ComponentLink2URL: https://www.digikey.com/product-detail/en/nichicon/UVZ1E471MPD1TD/493-13459-3-ND/4342015; Tolerance: 20%; Voltage: 25V; Price: 0.1453; Device Package: Radial, Can, 10mm
footprint CAP AL TH D10 L5 H14.5
pins: 1, 2

## UVZ1E472MHD
designator C?, comment 4700uF  (value not drawn)
CAP ALUM 4700UF 20% 25V RADIAL; Part Number: UVZ1E472MHD; Manufacturer: Nichicon; TemperatureRange: -55C ~ 105C; Type: Polar; Ripple Current: 1.71A; Value: 4700uF; PartId: 27132; Supplier 1: Digi-Key; Supplier Part Number 1: 493-1308-ND; ComponentLink1Description: Datasheet; ComponentLink1URL: http://nichicon-us.com/english/products/pdfs/e-uvz.pdf; ComponentLink2Description: Digi-Key Listing; ComponentLink2URL: https://www.digikey.com/product-detail/en/nichicon/UVZ1E472MHD/493-1308-ND/589049; Tolerance: 20%; Voltage: 25V; Price: 1.79; Device Package: Radial, Can, 16mm
footprint CAP AL TH D16 L7.5 H33.5
pins: 1, 2